# Altium schematic symbol library KB-平衡杠.SchLib: 1 symbol
Pins are listed as number, name and electrical type; pins without a type are passive.

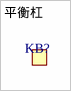
[diagram p0: symbol 平衡杠]

## 平衡杠
designator KB?  (no BOM)